# EAGLE library part TEXAS_INSTRUMENTS-SUPERVISOR_MONITOR-TPS3897_DRY_6 (library Module_Regulators)
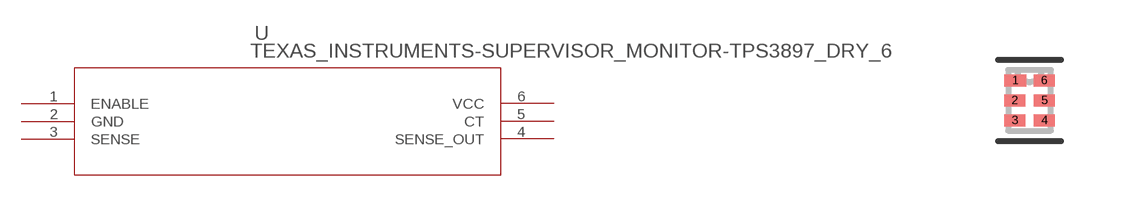
[diagram p11: symbol with the pads of TEXAS_INSTRUMENTS-ESD_SUPPRESSOR-TPD4E004_DRY_6/SUPERVISOR_MONITOR-TPS3897_DRY_6; footprint TEXAS_INSTRUMENTS-ESD_SUPPRESSOR-TPD4E004_DRY_6/SUPERVISOR_MONITOR-TPS3897_DRY_6]

Designator prefix U

## TEXAS_INSTRUMENTS-SUPERVISOR_MONITOR-TPS3897_DRY_6 (DATASHEETURL: httpwww.ti.comlitgpnTPS3897; FAMILY_NAME: SUPERVISOR AND RESET IC; GENERIC_PART_NUMBER: TPS3897; INDUSTRY_STD_PKG_TYPE: SON; MANUFACTURER: Texas Instruments; MANUFACTURER_PART_NUMBER: tps3897_dry_6; PACKAGE_DESIGNATOR: DRY; PIN_COUNT: 6; VENDOR: Texas Instruments)  [TEXAS_INSTRUMENTS-ESD_SUPPRESSOR-TPD4E004_DRY_6/SUPERVISOR_MONITOR-TPS3897_DRY_6]
1  ENABLE  pas
2  GND  pwr
3  SENSE  pas
4  SENSE_OUT  out
5  CT  pas
6  VCC  pwr

## Footprint TEXAS_INSTRUMENTS-ESD_SUPPRESSOR-TPD4E004_DRY_6/SUPERVISOR_MONITOR-TPS3897_DRY_6 (pad centres in mm)
smd 0.55 x 0.3: 1 -0.355,0.5
smd 0.52 x 0.3: 2 -0.37,0; 3 -0.37,-0.5; 4 0.37,-0.5; 5 0.37,0; 6 0.37,0.5